# Altium schematic symbol library 3296X-1-103.SchLib: 1 symbol
Pins are listed as number, name and electrical type; pins without a type are passive.

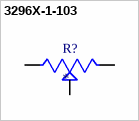
[diagram p0: symbol 3296X-1-103]

## 3296X-1-103
designator R?
±10% 10kΩ Plugin Variable Resistors/Potentiometers ROHS; Mfr. Part #: 3296X-1-103; Manufacturer: BOCHEN(Chengdu Guosheng Tech); Value: 10kΩ; Datasheet: https://datasheet.lcsc.com/lcsc/1811011704_BOCHEN-Chengdu-Guosheng-Tech-3296X-1-103_C118955.pdf; Package: Plugin; LCSC Part #: C118955
footprint 3296X-1-103
pins: 1 A, 2 B, 3 C